# Altium footprint library IDTILab.PcbLib: 105 footprints (part 1 of 7)
Each footprint in its own frame and in the unit in brackets; x right, y up, seen from the top. Pads: shape width x height; smd on the part's side, far side on the other; paste and mask are expansions set on the pad; w line width, h text height; cw(c..) or ccw(c..) is an arc to the next point about the centre after c.
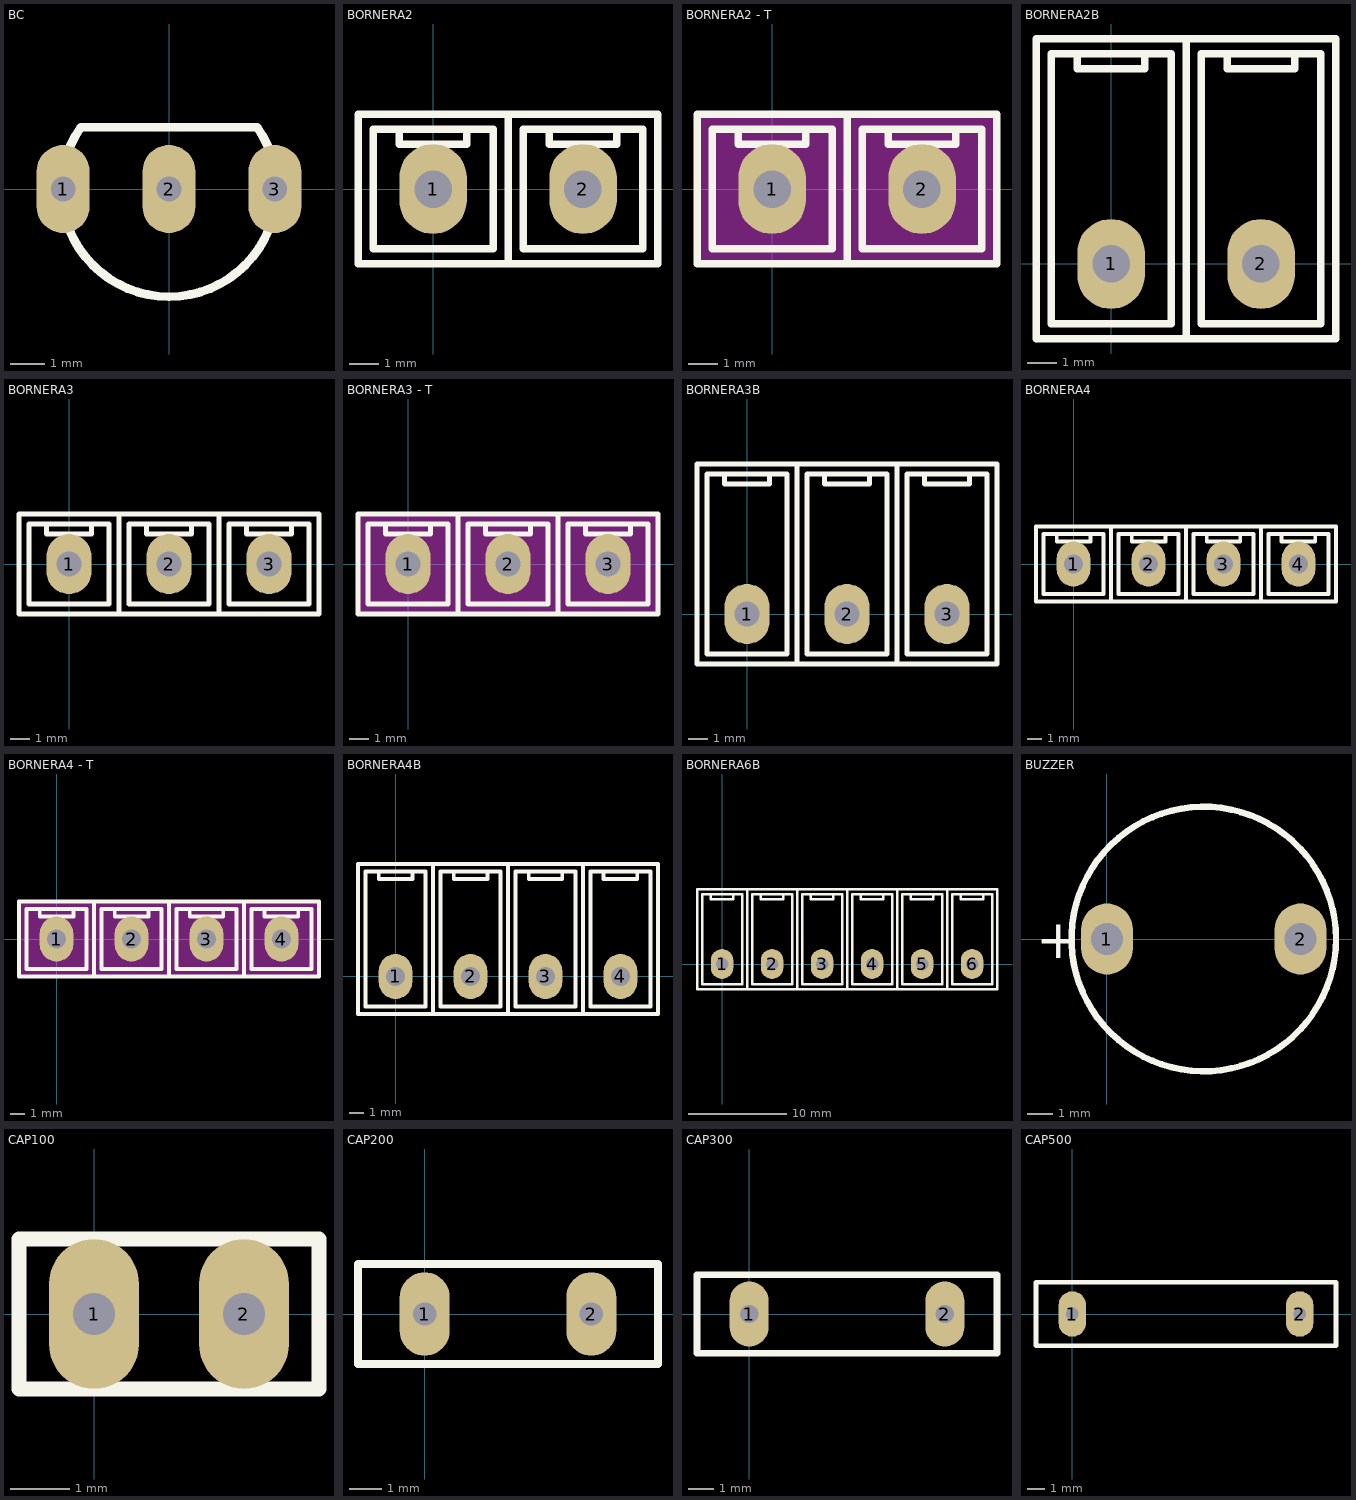
[diagram p0: the footprints below, top view; thin cyan lines are the x and y axes]

## BC [mil]
pads (3):
  oval 60x100 hole 28: 1(-120,0) 2(0,0) 3(120,0)
Top Overlay:
  lines w10: -100,70 ccw(c0,0) 100,70 -100,70

## BORNERA2 [mil]
pads (2):
  oval 90x120 hole 50: 1(0,0) 2(200,0)
Top Overlay:
  lines w10: -45,80 -45,60 45,60 45,80 ; 100,-100 100,100 ; 155,80 155,60 245,60 245,80 ; -100,-100 300,-100 300,100 -100,100 -100,-100 ; -80,-80 80,-80 80,80 -80,80 -80,-80 ; 120,-80 280,-80 280,75 280,80 120,80 120,-80

## BORNERA2 - T [mil] "Top Layer bloqueada"
height 400
pads (2):
  oval 90x120 hole 50: 1(0,0) 2(200,0)
Top Layer keep-out:
  rectangle: -100,-100 300,100
Top Overlay:
  lines w10: -45,80 -45,60 45,60 45,80 ; 100,-100 100,100 ; 155,80 155,60 245,60 245,80 ; -100,-100 300,-100 300,100 -100,100 -100,-100 ; -80,-80 80,-80 80,80 -80,80 -80,-80 ; 120,-80 280,-80 280,75 280,80 120,80 120,-80

## BORNERA2B [mil]
pads (2):
  oval 90x120 hole 50: 1(0,0) 2(200,0)
Top Overlay:
  lines w10: -45,280 -45,260 45,260 45,280 ; 155,280 155,260 245,260 245,280 ; 100,-100 300,-100 300,300 100,300 ; 100,-100 -100,-100 -100,300 100,300 ; 100,-100 100,300 ; -80,-80 -80,280 80,280 80,-80 -80,-80 ; 120,-80 280,-80 280,280 120,280 120,-80

## BORNERA3 [mil]
pads (3):
  oval 90x120 hole 50: 1(0,0) 2(200,0) 3(400,0)
Top Overlay:
  lines w10: -45,80 -45,60 45,60 45,80 ; 100,-100 100,100 ; 155,80 155,60 245,60 245,80 ; 355,80 355,60 445,60 445,80 ; 300,-100 300,100 ; 300,-100 -100,-100 -100,100 300,100 ; 300,-100 500,-100 500,100 300,100 ; -80,-80 80,-80 80,80 -80,80 -80,-80 ; 120,-80 280,-80 280,75 280,80 120,80 120,-80 ; 320,-80 320,80 480,80 480,-80 320,-80

## BORNERA3 - T [mil] "Top layer bloqueada"
pads (3):
  oval 90x120 hole 50: 1(0,0) 2(200,0) 3(400,0)
Top Layer keep-out:
  rectangle: -100,-100 500,100
Top Overlay:
  lines w10: -45,80 -45,60 45,60 45,80 ; 100,-100 100,100 ; 155,80 155,60 245,60 245,80 ; 355,80 355,60 445,60 445,80 ; 300,-100 300,100 ; 300,-100 -100,-100 -100,100 300,100 ; 300,-100 500,-100 500,100 300,100 ; -80,-80 80,-80 80,80 -80,80 -80,-80 ; 120,-80 280,-80 280,75 280,80 120,80 120,-80 ; 320,-80 320,80 480,80 480,-80 320,-80

## BORNERA3B [mil]
pads (3):
  oval 90x120 hole 50: 1(0,0) 2(200,0) 3(400,0)
Top Overlay:
  lines w10: -45,280 -45,260 45,260 45,280 ; 155,280 155,260 245,260 245,280 ; 355,280 355,260 445,260 445,280 ; 100,-100 300,-100 ; 100,-100 -100,-100 -100,300 100,300 ; 100,-100 100,300 ; 100,300 300,300 ; 300,-100 300,300 ; 300,-100 500,-100 500,300 300,300 ; -80,-80 -80,280 80,280 80,-80 -80,-80 ; 120,-80 280,-80 280,280 120,280 120,-80 ; 320,-80 480,-80 480,280 320,280 320,-80

## BORNERA4 [mil]
pads (4):
  oval 90x120 hole 50: 1(0,0) 2(200,0) 3(400,0) 4(600,0)
Top Overlay:
  lines w10: -45,80 -45,60 45,60 45,80 ; 100,-100 100,100 ; 155,80 155,60 245,60 245,80 ; 355,80 355,60 445,60 445,80 ; 555,80 555,60 645,60 645,80 ; 300,-100 300,100 ; 300,-100 -100,-100 -100,100 300,100 ; 300,-100 500,-100 ; 300,100 500,100 ; 500,-100 500,100 ; 500,-100 700,-100 700,100 500,100 ; -80,-80 80,-80 80,80 -80,80 -80,-80 ; 120,-80 280,-80 280,75 280,80 120,80 120,-80 ; 320,-80 320,80 480,80 480,-80 320,-80 ; 520,-80 680,-80 680,80 520,80 520,-80

## BORNERA4 - T [mil] "Top layer bloqueada"
pads (4):
  oval 90x120 hole 50: 1(0,0) 2(200,0) 3(400,0) 4(600,0)
Top Layer keep-out:
  rectangle: -100,-100 700,100
Top Overlay:
  lines w10: -45,80 -45,60 45,60 45,80 ; 100,-100 100,100 ; 155,80 155,60 245,60 245,80 ; 355,80 355,60 445,60 445,80 ; 555,80 555,60 645,60 645,80 ; 300,-100 300,100 ; 300,-100 -100,-100 -100,100 300,100 ; 300,-100 500,-100 ; 300,100 500,100 ; 500,-100 500,100 ; 500,-100 700,-100 700,100 500,100 ; -80,-80 80,-80 80,80 -80,80 -80,-80 ; 120,-80 280,-80 280,75 280,80 120,80 120,-80 ; 320,-80 320,80 480,80 480,-80 320,-80 ; 520,-80 680,-80 680,80 520,80 520,-80

## BORNERA4B [mil]
pads (4):
  oval 90x120 hole 50: 1(0,0) 2(200,0) 3(400,0) 4(600,0)
Top Overlay:
  lines w10: -45,280 -45,260 45,260 45,280 ; 155,280 155,260 245,260 245,280 ; 355,280 355,260 445,260 445,280 ; 555,280 555,260 645,260 645,280 ; 100,-100 300,-100 ; 100,-100 -100,-100 -100,300 100,300 ; 100,-100 100,300 ; 100,300 300,300 ; 300,-100 300,300 ; 300,-100 500,-100 ; 300,300 500,300 ; 500,-100 500,300 ; 500,-100 700,-100 700,300 500,300 ; -80,-80 -80,280 80,280 80,-80 -80,-80 ; 120,-80 280,-80 280,280 120,280 120,-80 ; 320,-80 480,-80 480,280 320,280 320,-80 ; 520,-80 680,-80 680,280 520,280 520,-80

## BORNERA6B [mil]
pads (6):
  oval 90x120 hole 50: 1(0,0) 2(200,0) 3(400,0) 4(600,0) 5(800,0) 6(1000,0)
Top Overlay:
  lines w10: -45,280 -45,260 45,260 45,280 ; 155,280 155,260 245,260 245,280 ; 355,280 355,260 445,260 445,280 ; 555,280 555,260 645,260 645,280 ; 755,280 755,260 845,260 845,280 ; 955,280 955,260 1045,260 1045,280 ; 100,-100 100,300 ; 100,-100 -100,-100 -100,300 100,300 ; 100,-100 300,-100 ; 100,300 300,300 ; 300,-100 500,-100 ; 300,-100 300,300 ; 300,300 500,300 ; 500,-100 700,-100 ; 500,-100 500,300 ; 500,300 700,300 ; 700,-100 900,-100 ; 700,-100 700,300 ; 700,300 900,300 ; 900,-100 1100,-100 1100,300 900,300 ; 900,-100 900,300 ; -80,-80 80,-80 80,280 -80,280 -80,-80 ; 120,-80 120,280 280,280 280,-80 120,-80 ; 320,-80 320,280 480,280 480,-80 320,-80 ; 520,-80 520,280 680,280 680,-80 520,-80 ; 720,-80 880,-80 880,280 720,280 720,-80 ; 920,-80 1080,-80 1080,280 920,280 920,-80

## BUZZER [mil]
pads (2):
  oval 80x110 hole 50: 1(0,0) 2(300,0)
Top Overlay:
  circle w10: c150,0 r205
  text "+" at -110,-30 h60

## CAP100 [mil]
pads (2):
  oval 60x100 hole 28: 1(0,0) 2(100,0)
Top Overlay:
  lines w10: -50,-50 -50,0 -50,50 150,50 150,-50 -50,-50

## CAP200 [mil]
pads (2):
  oval 60x100 hole 28: 1(0,0) 2(200,0)
Top Overlay:
  lines w10: -80,-60 -80,0 -80,60 280,60 280,-60 -80,-60

## CAP300 [mil]
pads (2):
  oval 60x100 hole 28: 1(0,0) 2(300,0)
Top Overlay:
  lines w10: -80,-60 380,-60 380,60 -80,60 -80,0 -80,-60

## CAP500 [mil]
pads (2):
  oval 60x100 hole 28: 1(0,0) 2(500,0)
Top Overlay:
  lines w10: -80,-70 -80,0 -80,70 580,70 580,-70 -80,-70